# Altium schematic symbol library KDZLVTF Family.SchLib: 1 symbol
Pins are listed as number, name and electrical type; pins without a type are passive.

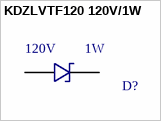
[diagram p0: symbol KDZLVTF120 120V/1W]

## KDZLVTF120 120V/1W
designator D?, comment Voltage: 120V  Power: 1W  (hidden comment: KDZLVTF120 120V/1W - SOD-123)
Zener Diode 120V 1W  Surface Mount SOD-123FL; Manufacturer 1: Rohm Semiconductor; Manufacturer 1 PN: KDZLVTFTR120; Digikey PN: KDZLVTFTR120CT-ND; ComponentLink1Description: Datasheet; ComponentLink1URL: http://rohmfs.rohm.com/en/products/databook/datasheet/discrete/diode/zener/kdzlvtftr120-e.pdf
footprint KDZLVTF120 120V/1W - SOD-123 (Zener Diode 120V 1W  Surface Mount SOD-123FL)
pins: A, K